# EAGLE library part DF3-8 (library hirose)
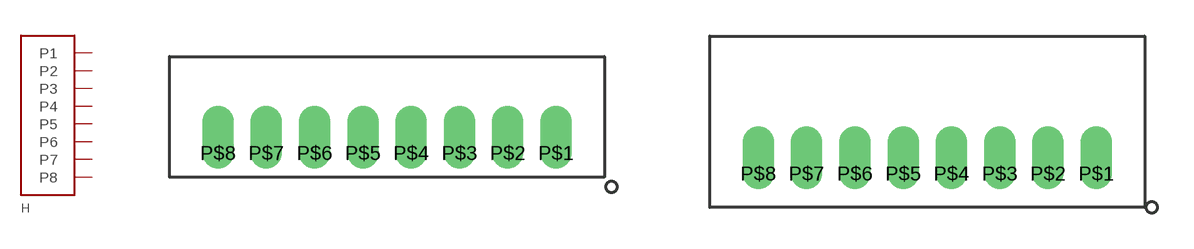
[diagram p1: symbol with the pads of DF3-8; footprints DF3-8, DF3-8-RA]

Designator prefix H

## DF3-8  [DF3-8]
P$1  P1
P$2  P2
P$3  P3
P$4  P4
P$5  P5
P$6  P6
P$7  P7
P$8  P8

## DF3-8RA  [DF3-8-RA]
Pads as for DF3-8

## Footprint DF3-8 (pad centres in mm)
drill 0.8 offset: P$1 0,0; P$2 -2,0; P$3 -4,0; P$4 -6,0; P$5 -8,0; P$6 -10,0; P$7 -12,0; P$8 -14,0

## Footprint DF3-8-RA (pad centres in mm)
drill 0.8 offset: P$1 0,0; P$2 -2,0; P$3 -4,0; P$4 -6,0; P$5 -8,0; P$6 -10,0; P$7 -12,0; P$8 -14,0